# EAGLE library part JTK3024S05 (library JTK3024S05)
Isolated DC/DC Converters DC-DC CONV, 30W, 4:1 INPUT, 1x1" Source: Datasheet <https://www.xppower.com/Portals/0/pdfs/SF_JTK30.pdf>
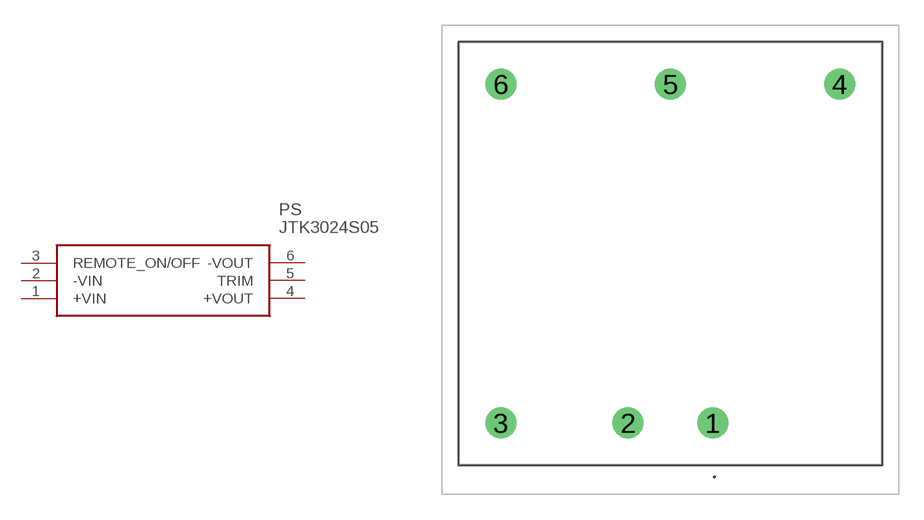
[diagram p0: symbol with the pads of JTK3024S05; footprint JTK3024S05]

Designator prefix PS

## JTK3024S05 (Description: Isolated DC/DC Converters DC-DC CONV, 30W, 4:1 INPUT, 1x1"; Height: 11.4mm; Manufacturer_Name: XP POWER; Manufacturer_Part_Number: JTK3024S05; Mouser_Part_Number: 209-JTK3024S05; Mouser_Price-Stock: https://www.mouser.co.uk/ProductDetail/XP-Power/JTK3024S05?qs=w%2Fv1CP2dgqqxIYwZs8wWyg%3D%3D)  [JTK3024S05]
1  +VIN
2  -VIN
3  REMOTE_ON/OFF
4  +VOUT
5  TRIM
6  -VOUT

## Footprint JTK3024S05 (pad centres in mm)
JTK30_2020
drill 1.2 pad 1.85: 1 0,0; 2 -5.08,0; 3 -12.7,0; 4 7.62,20.32; 5 -2.54,20.32; 6 -12.7,20.32